# Altium integrated library GAPlib_DEVICES.IntLib: 19 symbols
Pins are listed as number, name and electrical type; pins without a type are passive.

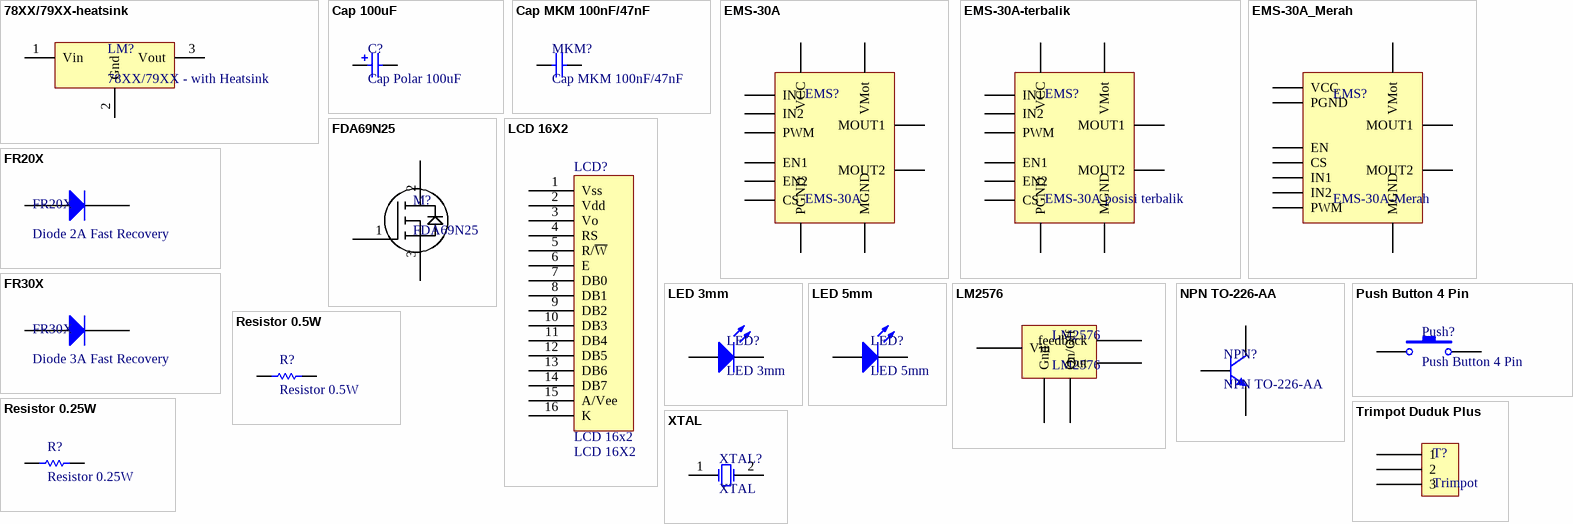
[diagram p0: symbols 78XX/79XX-heatsink to XTAL]

## 78XX/79XX-heatsink
designator LM?, comment 78XX/79XX - with Heatsink
footprint 78XX/79XX HEATSINK
pins: 1 Vin, 2 Gnd, 3 Vout

## Cap 100uF
designator C?, comment Cap Polar 100uF
footprint Cap 100uF
pins: 1, 2

## Cap MKM 100nF/47nF
designator MKM?
footprint Cap MKM 100nF
pins: 1, 2

## EMS-30A
designator EMS?
Posisi terbalik (shield)
footprint EMS-30A (Pakai pin out)
pins: 1 IN1, 2 IN2, 3 EN1, 4 EN2, 5 CS, 6 PWM, 9 VCC, 10 PGND, 11 MOUT1, 12 MOUT2, 13 VMot, 14 MGND

## EMS-30A-terbalik
designator EMS?, comment EMS-30A posisi terbalik
Posisi terbalik (shield)
footprint EMS-30A-terbalik (Pakai pin out)
pins: 1 IN1, 2 IN2, 3 EN1, 4 EN2, 5 CS, 6 PWM, 9 VCC, 10 PGND, 11 MOUT1, 12 MOUT2, 13 VMot, 14 MGND

## EMS-30A_Merah
designator EMS?, comment EMS-30A-Merah
footprint EMS-30A_Merah
pins: CS, EN, GND PGND, IN1, IN2, MGND, MOUT1, MOUT2, PWM, VCC, VMot

## FDA69N25
designator M?
footprint FDA69N25
pins: 1 G, 2 D, 3 S

## FR20X
designator FR20X, comment Diode 2A Fast Recovery
footprint FR20X (Diode)
pins: 1, 2

## FR30X
designator FR30X, comment Diode 3A Fast Recovery
footprint FR30X (Diode)
pins: 1, 2

## LCD 16X2
designator LCD?
footprint LCD 16X2
pins: 1 Vss, 2 Vdd, 3 Vo, 4 RS, 5 R/~{W}, 6 E, 7 DB0, 8 DB1, 9 DB2, 10 DB3, 11 DB4, 12 DB5, 13 DB6, 14 DB7, 15 A/Vee, 16 K
text: LCD 16x2

## LED 3mm
designator LED?
footprint LED 3mm
pins: 1 A, 2 K

## LED 5mm
designator LED?
footprint LED 5mm
pins: 1 A, 2 K

## LM2576
designator LM2576
footprint LM2576
pins: 1 Vin, 2 Out, 3 Gnd, 4 feedback, 5 On/Off

## NPN TO-226-AA
designator NPN?
footprint NPN TO-226-AA
pins: 1 C, 2 B, 3 E

## Push Button 4 Pin
designator Push?
footprint Push Button 4 Pin
pins: 1, 2

## Resistor 0.5W
designator R?
footprint Resistor 0.5W
pins: 1, 2

## Resistor 0.25W
designator R?
footprint Resistor 0.25W
pins: 1, 2

## Trimpot Duduk Plus
designator T?, comment Trimpot
Trimpot Duduk Plus
footprint TRIMPOT DUDUK
pins: 1, 2, 3

## XTAL
designator XTAL?
footprint XTAL
pins: 1 OSC1, 2 OSC2